# EAGLE library part DS2782 (library DS2782)
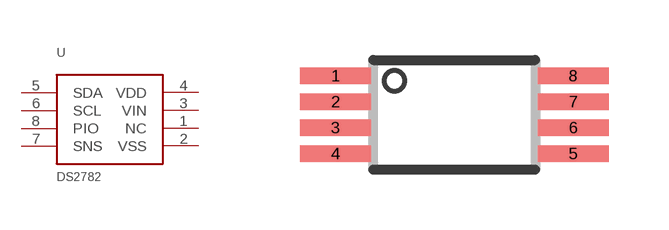
[diagram p0: symbol with the pads of TSSOP-8; footprint TSSOP-8]

Designator prefix U

## DS2782  [TSSOP-8]
1  NC
2  VSS
3  VIN
4  VDD
5  SDA
6  SCL
7  SNS
8  PIO

## Footprint TSSOP-8 (pad centres in mm)
8-Pin TSSOP Source: www.xicor.com .. x1205.pdf
smd 1.78 x 0.42: 1 -2.975,0.975; 2 -2.975,0.325; 3 -2.975,-0.325; 4 -2.975,-0.975; 5 2.975,-0.975; 6 2.975,-0.325; 7 2.975,0.325; 8 2.975,0.975